# Altium schematic symbol library USBc to Ethernet(2.0).SchLib: 12 symbols
Pins are listed as number, name and electrical type; pins without a type are passive.

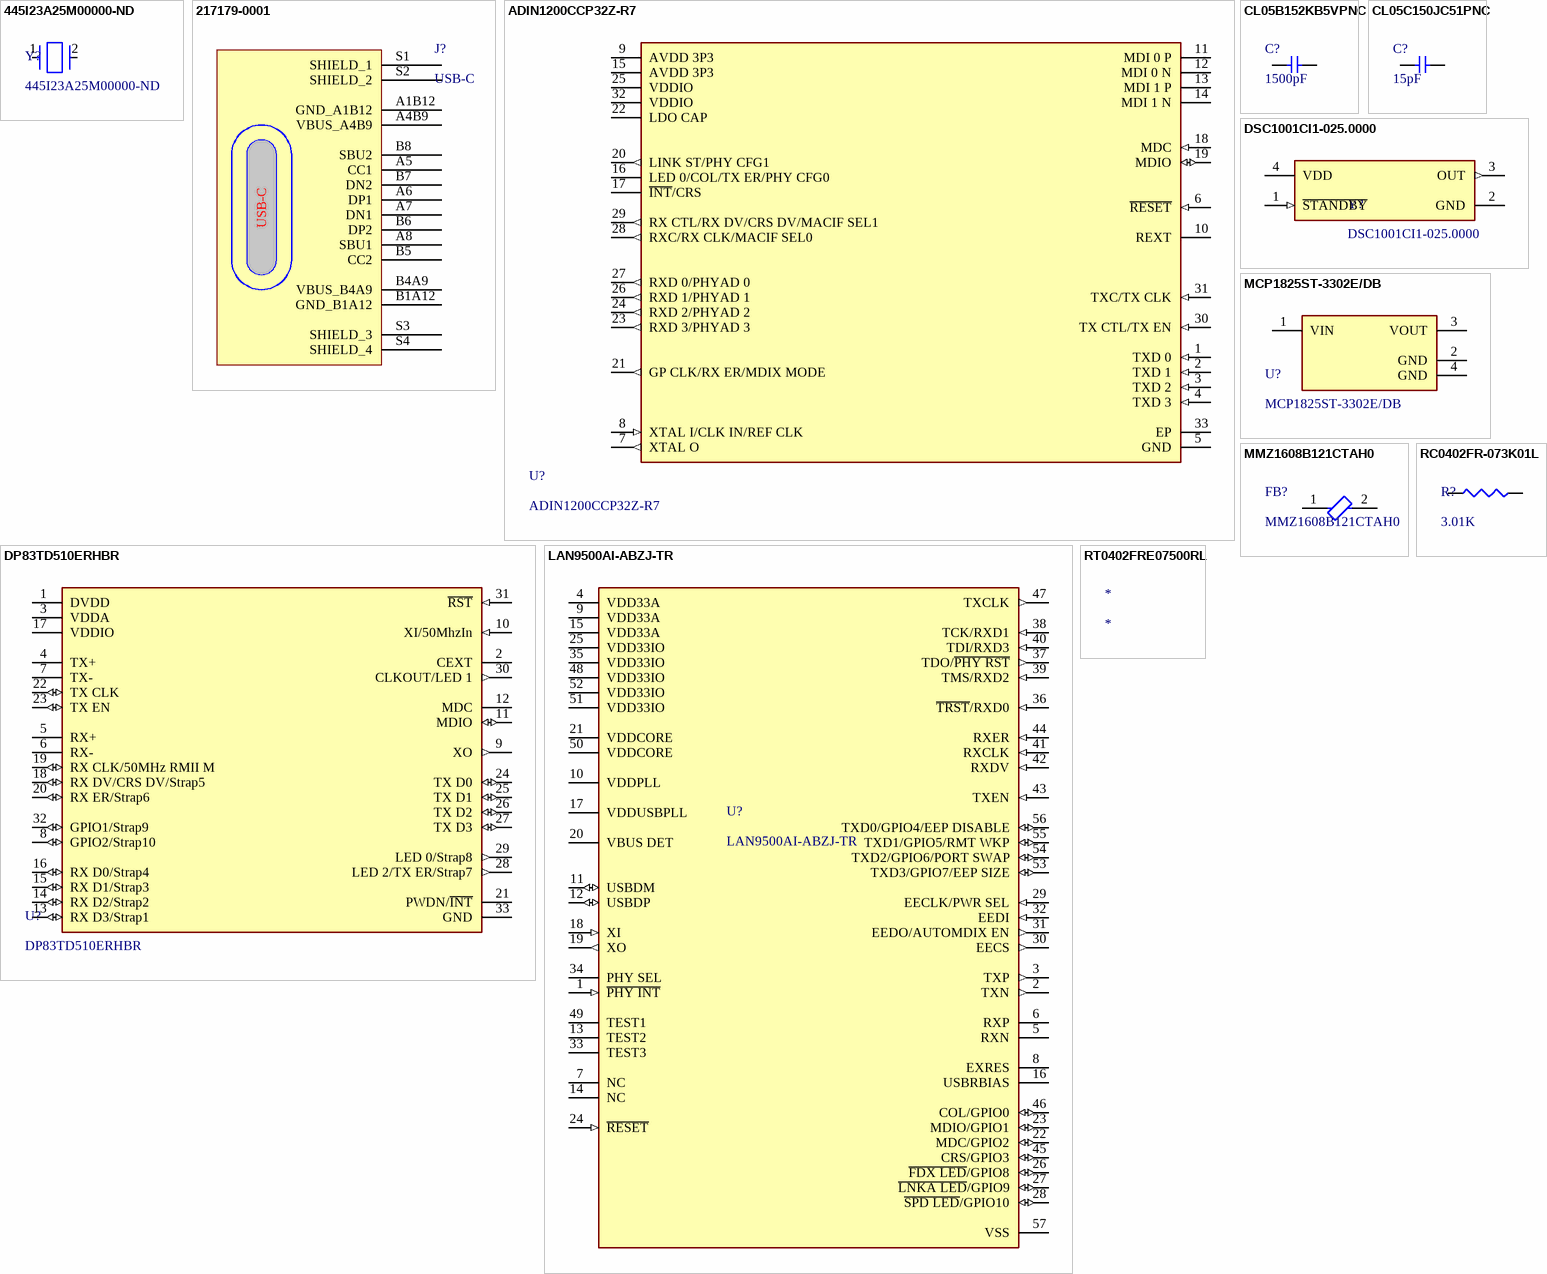
[diagram p0: symbols 445I23A25M00000-ND to RT0402FRE07500RL]

## 445I23A25M00000-ND
designator Y?
Crystal 25MHz ±20ppm (Tol) ±30ppm (Stability) 18pF FUND 30Ohm 2-Pin Mini-CSMD T/R; Manufacturer: Abracon; Manufacturer Part Number: ABM3-25.000MHZ-D2Y-T; ESR (Equivalent Series Resistance): 30Ω; Frequency Tolerance: 0.002%; Series Resistance: 50Ω; Supplier 1: DigiKey; RoHS: Compliant; Category: Crystals; Stock 1: 17148; Pricing 1: 1000=0.36759, 2000=0.35239, 3000=0.34379, 5000=0.33326, 7000=0.3265, 10000=0.31949 (USD); Case/Package: CSMD; China RoHS: Non-Compliant; Composition: Ceramic; Depth: 3.2mm; Frequency: 25MHz; Frequency Stability: 30ppm; Height: 1.3mm; Lead Free: Lead Free; Length: 5mm; Lifecycle Status: Production; Load Capacitance: 18pF; Max Operating Temperature: 85°C; Min Operating Temperature: -40°C; Mount: Surface Mount; Number of Pins: 2; Packaging: Cut Tape; REACH SVHC: Unaffected; Schedule B: 8541600060, 8541600060|8541600060|8541600060|8541600060|8541600060; Termination: SMD/SMT; Tolerance: 0.002%; Width: 3.2mm; ComponentLink1URL: https://datasheet.octopart.com:443/ABM3-25.000MHZ-D2Y-T-Abracon-datasheet-182205007.pdf?src-supplier=JRH+Electronics; ComponentLink1Description: https://datasheet.octopart.com:443/ABM3-25.000MHZ-D2Y-T-Abracon-datasheet-182205007.pdf?src-supplier=JRH+Electronics; ComponentLink2URL: https://datasheet.octopart.com:443/ABM3-25.000MHZ-D2Y-T-Abracon-datasheet-32780515.pdf?src-supplier=element14+APAC; ComponentLink2Description: https://datasheet.octopart.com:443/ABM3-25.000MHZ-D2Y-T-Abracon-datasheet-32780515.pdf?src-supplier=element14+APAC; ComponentLink3URL: https://sigma.octopart.com:443/138895675/technical_drawing/Abracon-ABM3-25.000MHZ-D2Y-T.pdf?src-supplier=Upverter; ComponentLink3Description: https://sigma.octopart.com:443/138895675/technical_drawing/Abracon-ABM3-25.000MHZ-D2Y-T.pdf?src-supplier=Upverter; ComponentLink4URL: https://datasheet.octopart.com:443/ABM3-25.000MHZ-D2Y-T-Abracon-datasheet-13417521.pdf?src-supplier=Sager+Electronics; ComponentLink4Description: https://datasheet.octopart.com:443/ABM3-25.000MHZ-D2Y-T-Abracon-datasheet-13417521.pdf?src-supplier=Sager+Electronics; ComponentLink5URL: https://datasheet.octopart.com:443/ABM3-25.000MHZ-D2Y-T-Abracon-datasheet-8862594.pdf?src-supplier=Sager+Electronics; ComponentLink5Description: https://datasheet.octopart.com:443/ABM3-25.000MHZ-D2Y-T-Abracon-datasheet-8862594.pdf?src-supplier=Sager+Electronics; ComponentLink6URL: https://datasheet.octopart.com:443/ABM3-25.000MHZ-D2Y-T-Abracon-datasheet-8853172.pdf?src-supplier=Sager+Electronics; ComponentLink6Description: https://datasheet.octopart.com:443/ABM3-25.000MHZ-D2Y-T-Abracon-datasheet-8853172.pdf?src-supplier=Sager+Electronics; ComponentLink7URL: https://datasheet.octopart.com:443/ABM3-25.000MHZ-D2Y-T-Abracon-datasheet-8835795.pdf?src-supplier=Sager+Electronics; ComponentLink7Description: https://datasheet.octopart.com:443/ABM3-25.000MHZ-D2Y-T-Abracon-datasheet-8835795.pdf?src-supplier=Sager+Electronics; ComponentLink8URL: https://datasheet.octopart.com:443/ABM3-25.000MHZ-D2Y-T-Abracon-datasheet-8815637.pdf?src-supplier=Sager+Electronics; ComponentLink8Description: https://datasheet.octopart.com:443/ABM3-25.000MHZ-D2Y-T-Abracon-datasheet-8815637.pdf?src-supplier=Sager+Electronics; ComponentLink9URL: https://datasheet.octopart.com:443/ABM3-25.000MHZ-D2Y-T-Abracon-datasheet-8808528.pdf?src-supplier=Sager+Electronics; ComponentLink9Description: https://datasheet.octopart.com:443/ABM3-25.000MHZ-D2Y-T-Abracon-datasheet-8808528.pdf?src-supplier=Sager+Electronics; ComponentLink10URL: https://datasheet.octopart.com:443/ABM3-25.000MHZ-D2Y-T-Abracon-datasheet-8488864.pdf?src-supplier=Sager+Electronics; ComponentLink10Description: https://datasheet.octopart.com:443/ABM3-25.000MHZ-D2Y-T-Abracon-datasheet-8488864.pdf?src-supplier=Sager+Electronics; ComponentLink11URL: https://datasheet.octopart.com:443/ABM3-25.000MHZ-D2Y-T-Abracon-datasheet-8324950.pdf?src-supplier=Sager+Electronics; ComponentLink11Description: https://datasheet.octopart.com:443/ABM3-25.000MHZ-D2Y-T-Abracon-datasheet-8324950.pdf?src-supplier=Sager+Electronics; ComponentLink12URL: https://datasheet.octopart.com:443/ABM3-25.000MHZ-D2Y-T-Abracon-datasheet-577709.pdf?src-supplier=Sager+Electronics; ComponentLink12Description: https://datasheet.octopart.com:443/ABM3-25.000MHZ-D2Y-T-Abracon-datasheet-577709.pdf?src-supplier=Sager+Electronics; ComponentLink13URL: https://datasheet.octopart.com:443/ABM3-25.000MHZ-D2Y-T-Abracon-datasheet-154724144.pdf?src-supplier=Sager+Electronics; ComponentLink13Description: https://datasheet.octopart.com:443/ABM3-25.000MHZ-D2Y-T-Abracon-datasheet-154724144.pdf?src-supplier=Sager+Electronics; ComponentLink14URL: https://datasheet.octopart.com:443/ABM3-25.000MHZ-D2Y-T-Abracon-datasheet-128558652.pdf?src-supplier=X-ON; ComponentLink14Description: https://datasheet.octopart.com:443/ABM3-25.000MHZ-D2Y-T-Abracon-datasheet-128558652.pdf?src-supplier=X-ON; ComponentLink15URL: https://datasheet.octopart.com:443/ABM3-25.000MHZ-D2Y-T-Abracon-datasheet-12514944.pdf?src-supplier=Farnell; ComponentLink15Description: https://datasheet.octopart.com:443/ABM3-25.000MHZ-D2Y-T-Abracon-datasheet-12514944.pdf?src-supplier=Farnell; ComponentLink16URL: http://sigma.octopart.com:80/conflict_mineral_statement/Abracon-company-27.pdf?src-supplier=Compliance+Statements; ComponentLink16Description: http://sigma.octopart.com:80/conflict_mineral_statement/Abracon-company-27.pdf?src-supplier=Compliance+Statements
pins: 1, 2

## 217179-0001
designator J?, comment USB-C
USB-C (USB TYPE-C) USB 2.0 Receptacle Connector 24 (16+8 Dummy) Position Surface Mount, Right Angle; Through Hole; Manufacturer: Molex; Manufacturer Part Number: 217179-0001; Manufacturer Lifecycle Status: ACTIVE; Contact Resistance: 50mΩ; Current Rating: 1.25A; Dielectric Material: Polyamide; Gender: Female; Insulation Resistance: 100MΩ; Number of Contacts: 16; Number of Ports: 1; USB Standard: USB 2.0; Voltage Rating: 30V; Supplier 1: DigiKey; RoHS: Compliant; Category: USB Connectors; Stock 1: 93695; Pricing 1: 1=0.9, 10=0.764, 25=0.7156, 50=0.6814, 100=0.6487, 250=0.60808, 500=0.57902 (USD); China RoHS: Compliant; Contact Material: Gold, Nickel; Country of Origin: Mainland China; Export Control Classification Number (ECCN) Code: EAR99; Height: 3.36mm; Harmonized Tariff Schedule (HTS) Code: 8536.69.40.30; Insulation Color: Black; Introduction Date: 2021-08-30; Lifecycle Status: Production; Max Operating Temperature: 85°C; Min Operating Temperature: -40°C; Number of Positions: 16; Number of Rows: 1; Orientation: Right Angle; REACH SVHC: Unaffected; Shell Finish: Nickel; Shell Material: Stainless Steel; Terminal Pitch: 500µm; ComponentLink1URL: https://datasheet.octopart.com:443/217179-0001-Molex-datasheet-158871109.pdf?src-supplier=ODG+(Origin+Data+Global); ComponentLink1Description: https://datasheet.octopart.com:443/217179-0001-Molex-datasheet-158871109.pdf?src-supplier=ODG+(Origin+Data+Global); ComponentLink2URL: https://sigma.octopart.com:443/158871110/technical_drawing/Molex-217179-0001.pdf?src-supplier=Upverter; ComponentLink2Description: https://sigma.octopart.com:443/158871110/technical_drawing/Molex-217179-0001.pdf?src-supplier=Upverter; ComponentLink3URL: https://datasheet.octopart.com:443/217179-0001-Molex-datasheet-164573281.pdf?src-supplier=RS+(Formerly+Allied+Electronics); ComponentLink3Description: https://datasheet.octopart.com:443/217179-0001-Molex-datasheet-164573281.pdf?src-supplier=RS+(Formerly+Allied+Electronics); ComponentLink4URL: http://sigma.octopart.com:80/reach_statement/Molex-company-74.pdf?src-supplier=Compliance+Statements; ComponentLink4Description: http://sigma.octopart.com:80/reach_statement/Molex-company-74.pdf?src-supplier=Compliance+Statements; ComponentLink5URL: http://sigma.octopart.com:80/rohs_statement/Molex-company-73.pdf?src-supplier=Compliance+Statements; ComponentLink5Description: http://sigma.octopart.com:80/rohs_statement/Molex-company-73.pdf?src-supplier=Compliance+Statements; ComponentLink6URL: http://sigma.octopart.com:80/conflict_mineral_statement/Molex-company-72.pdf?src-supplier=Compliance+Statements; ComponentLink6Description: http://sigma.octopart.com:80/conflict_mineral_statement/Molex-company-72.pdf?src-supplier=Compliance+Statements
footprint FP-2171790001-MFG
pins: A1B12 GND_A1B12, A4B9 VBUS_A4B9, A5 CC1, A6 DP1, A7 DN1, A8 SBU1, B1A12 GND_B1A12, B4A9 VBUS_B4A9, B5 CC2, B6 DP2, B7 DN2, B8 SBU2, S1 SHIELD_1, S2 SHIELD_2, S3 SHIELD_3, S4 SHIELD_4

## ADIN1200CCP32Z-R7
designator U?
1 1.71V，2.25V，3.14V 1.89V，2.75V，3.46V 10Mbps，100Mbps LFCSP-32 SMD mount，glue mount; Manufacturer: Analog Devices; Manufacturer Lifecycle Status: PRODUCTION; Supplier 1: DigiKey; Manufacturer Part Number: ADIN1200CCP32Z-R7; RoHS: Compliant; Category: Ethernet Controller; Stock 1: 1370; Pricing 1: 1=4.91, 10=3.732, 25=3.4384, 100=3.1157, 250=2.9682 (USD); Lifecycle Status: Production; Number of Pins: 32; Schedule B: 8542390000, 8542390000|8542390000|8542390000|8542390000|8542390000; ComponentLink1URL: https://octopart.com:443/opatz8j6/c1?t=HZL-HtANDajAHD0C8ZF6mlVMxWDT-0tIjJRmVTB2yYqGqlsq4ujGCt0vvVEDDg5XUYvZi3K2Ck7AUVEcfLzVVkLxOKsLAnPVoF7tYydxi1Ys7H6cvS-47R-_TxRLuqQcVIFhJLUG2H9zDe_djjrspLYMoVsZCYRF2gpSKYsGtSa6nOw0paGymVw3zpsHjwE5448VTEYwSnwllkFEedb2cqnXubyHQCMSJgI_EvgotiiYQ-o2w2ViWKimQ0UufNgkfBsnolBhi2VoNBWk9mf8fThbTduCaQ19_9E85Z12dS4mx2QsqoXMlhSOAg&src-supplier=Analog+Devices; ComponentLink1Description: https://octopart.com:443/opatz8j6/c1?t=HZL-HtANDajAHD0C8ZF6mlVMxWDT-0tIjJRmVTB2yYqGqlsq4ujGCt0vvVEDDg5XUYvZi3K2Ck7AUVEcfLzVVkLxOKsLAnPVoF7tYydxi1Ys7H6cvS-47R-_TxRLuqQcVIFhJLUG2H9zDe_djjrspLYMoVsZCYRF2gpSKYsGtSa6nOw0paGymVw3zpsHjwE5448VTEYwSnwllkFEedb2cqnXubyHQCMSJgI_EvgotiiYQ-o2w2ViWKimQ0UufNgkfBsnolBhi2VoNBWk9mf8fThbTduCaQ19_9E85Z12dS4mx2QsqoXMlhSOAg&src-supplier=Analog+Devices; ComponentLink2URL: https://datasheet.octopart.com:443/ADIN1200CCP32Z-R7-Analog-Devices-datasheet-141438756.pdf?src-supplier=element14+APAC; ComponentLink2Description: https://datasheet.octopart.com:443/ADIN1200CCP32Z-R7-Analog-Devices-datasheet-141438756.pdf?src-supplier=element14+APAC; ComponentLink3URL: http://sigma.octopart.com:80/conflict_mineral_statement/Analog-Devices-company-33.pdf?src-supplier=Compliance+Statements; ComponentLink3Description: http://sigma.octopart.com:80/conflict_mineral_statement/Analog-Devices-company-33.pdf?src-supplier=Compliance+Statements; ComponentLink4URL: https://octopart.com:443/opatz8j6/c1?t=PoRLQp7jAx8DIxURaa5E2FvOBT3bXxa1rSs2w7Og9uR9LC3mrpHz0_ugoRWFuXDpcslK1_tLtw4JcPG-_Mxx0jV5tFBggtCb5R_LRp85Poy0VVgqcv1NZ2J8wJxSnnmHFcaGONEvr_7F5qlalwvU_G7Y00SaWFcgec8N1W5v7AUHr0rYnCzVgvfBwvLbkMOP-qDSKP79IBKvZHS6jE1AIHV6GwCG7vf8DifVqGkXxabmubl95EmSBT8bOIRN3PY9oueR6UnOEoJqNSQfEmFs3Et9oQkvBRt6NeTbrb4b5_XWDukSQHjSOm5y4g&src-supplier=Compliance+Statements; ComponentLink4Description: https://octopart.com:443/opatz8j6/c1?t=PoRLQp7jAx8DIxURaa5E2FvOBT3bXxa1rSs2w7Og9uR9LC3mrpHz0_ugoRWFuXDpcslK1_tLtw4JcPG-_Mxx0jV5tFBggtCb5R_LRp85Poy0VVgqcv1NZ2J8wJxSnnmHFcaGONEvr_7F5qlalwvU_G7Y00SaWFcgec8N1W5v7AUHr0rYnCzVgvfBwvLbkMOP-qDSKP79IBKvZHS6jE1AIHV6GwCG7vf8DifVqGkXxabmubl95EmSBT8bOIRN3PY9oueR6UnOEoJqNSQfEmFs3Et9oQkvBRt6NeTbrb4b5_XWDukSQHjSOm5y4g&src-supplier=Compliance+Statements
pins: 1 TXD 0 (in), 2 TXD 1 (in), 3 TXD 2 (in), 4 TXD 3 (in), 5 GND (power), 6 ~{RESET} (in), 7 XTAL O (out), 8 XTAL I/CLK IN/REF CLK (in), 9 AVDD 3P3 (power), 10 REXT, 11 MDI 0 P, 12 MDI 0 N, 13 MDI 1 P, 14 MDI 1 N, 15 AVDD 3P3 (power), 16 LED 0/COL/TX ER/PHY CFG0, 17 ~{INT}/CRS (oc), 18 MDC (in), 19 MDIO (io), 20 LINK ST/PHY CFG1 (out), 21 GP CLK/RX ER/MDIX MODE (out), 22 LDO CAP (power), 23 RXD 3/PHYAD 3 (out), 24 RXD 2/PHYAD 2 (out), 25 VDDIO (power), 26 RXD 1/PHYAD 1 (out), 27 RXD 0/PHYAD 0 (out), 28 RXC/RX CLK/MACIF SEL0 (out), 29 RX CTL/RX DV/CRS DV/MACIF SEL1 (out), 30 TX CTL/TX EN (in), 31 TXC/TX CLK (in), 32 VDDIO (power), 33 EP (power)

## CL05B152KB5VPNC
designator C?, comment 1500pF
1500 pF ±10% 50V Ceramic Capacitor X7R 0402 (1005 Metric); Manufacturer: Samsung Electro-Mechanics; Manufacturer Part Number: CL05B152KB5VPNC; Capacitance: 1.5nF; Supplier 1: DigiKey; RoHS: Compliant; Category: Ceramic Capacitors; Stock 1: 275794; Pricing 1: 1=0.1, 10=0.036, 50=0.0242, 100=0.0206, 500=0.01472 (USD); Case/Package: 0402; Case Code (Imperial): 0402; Case Code (Metric): 1005; China RoHS: Compliant; Dielectric Material: Ceramic; Features: Soft Termination; Height: 550µm; Lead Free: Lead Free; Length: 990.6µm; Lifecycle Status: Production; Material: Ceramic; Max Operating Temperature: 125°C; Min Operating Temperature: -55°C; Mount: Surface Mount; Number of Terminals: 2; Packaging: Tape & Reel (TR); Ratings: AEC-Q200; REACH SVHC: Unaffected; Thickness: 558.8µm; Tolerance: 10%; Voltage Rating: 50V; Voltage Rating (DC): 50V; Width: 508µm; ComponentLink1URL: https://datasheet.octopart.com:443/CL05B152KB5VPNC-Samsung-Electro-Mechanics-datasheet-176142735.pdf?src-supplier=IHS; ComponentLink1Description: https://datasheet.octopart.com:443/CL05B152KB5VPNC-Samsung-Electro-Mechanics-datasheet-176142735.pdf?src-supplier=IHS; ComponentLink2URL: https://datasheet.octopart.com:443/CL05B152KB5VPNC-Samsung-Electro-Mechanics-datasheet-141346877.pdf?src-supplier=Samsung+SCT; ComponentLink2Description: https://datasheet.octopart.com:443/CL05B152KB5VPNC-Samsung-Electro-Mechanics-datasheet-141346877.pdf?src-supplier=Samsung+SCT; ComponentLink3URL: https://datasheet.octopart.com:443/CL05B152KB5VPNC-Samsung-datasheet-66660282.pdf?src-supplier=Future+Electronics; ComponentLink3Description: https://datasheet.octopart.com:443/CL05B152KB5VPNC-Samsung-datasheet-66660282.pdf?src-supplier=Future+Electronics; ComponentLink4URL: https://datasheet.octopart.com:443/CL05B152KB5VPNC-Samsung-datasheet-62043905.pdf?src-supplier=Future+Electronics; ComponentLink4Description: https://datasheet.octopart.com:443/CL05B152KB5VPNC-Samsung-datasheet-62043905.pdf?src-supplier=Future+Electronics; ComponentLink5URL: https://datasheet.octopart.com:443/CL05B152KB5VPNC-Samsung-Electro-Mechanics-datasheet-68304628.pdf?src-supplier=Future+Electronics; ComponentLink5Description: https://datasheet.octopart.com:443/CL05B152KB5VPNC-Samsung-Electro-Mechanics-datasheet-68304628.pdf?src-supplier=Future+Electronics; ComponentLink6URL: https://datasheet.octopart.com:443/CL05B152KB5VPNC-Samsung-Electro-Mechanics-datasheet-149136721.pdf?src-supplier=Future+Electronics; ComponentLink6Description: https://datasheet.octopart.com:443/CL05B152KB5VPNC-Samsung-Electro-Mechanics-datasheet-149136721.pdf?src-supplier=Future+Electronics; ComponentLink7URL: https://datasheet.octopart.com:443/CL05B152KB5VPNC-Samsung-datasheet-8326407.pdf?src-supplier=TME; ComponentLink7Description: https://datasheet.octopart.com:443/CL05B152KB5VPNC-Samsung-datasheet-8326407.pdf?src-supplier=TME
pins: 1, 2

## CL05C150JC51PNC
designator C?, comment 15pF
Multilayer Ceramic Capacitors MLCC - SMD/SMT 0402 C0G 15pF 5% 100V automotive grade; Manufacturer: Samsung Electro-Mechanics; Manufacturer Part Number: CL05C150JC51PNC; Temperature Coefficient: 30ppm/°C; Supplier 1: DigiKey; RoHS: Compliant; Category: Ceramic Capacitors; Stock 1: 123361; Pricing 1: 1=0.1, 10=0.055, 50=0.0378, 100=0.0326, 500=0.02386 (USD); Capacitance: 15pF; Case/Package: 0402; China RoHS: Compliant; Dielectric Material: Ceramic; Height: 500µm; Length: 1mm; Lifecycle Status: Production; Material: Ceramic; Max Operating Temperature: 125°C; Min Operating Temperature: -55°C; Mount: Surface Mount; Number of Terminals: 2; REACH SVHC: Unaffected; Tolerance: 5%; Voltage Rating: 100V; Voltage Rating (DC): 100V; Width: 500µm; ComponentLink1URL: https://datasheet.octopart.com:443/CL05C150JC51PNC-Samsung-Electro-Mechanics-datasheet-176142735.pdf?src-supplier=IHS; ComponentLink1Description: https://datasheet.octopart.com:443/CL05C150JC51PNC-Samsung-Electro-Mechanics-datasheet-176142735.pdf?src-supplier=IHS
pins: 1, 2

## DP83TD510ERHBR
designator U?
IEEE 802.3cg 10BASE-T1L Ethernet PHY 32-VQFN -40 to 105; Manufacturer: Texas Instruments; Manufacturer Lifecycle Status: ACTIVE; Data Rate: 10Mbps; Interface: RGMII; Max Supply Voltage: 3.6V; Min Supply Voltage: 900mV; Number of Channels: 2; Supplier 1: DigiKey; Manufacturer Part Number: DP83TD510ERHBR; RoHS: Compliant; Category: Ethernet Interface ICs; Stock 1: 1556; Pricing 1: 1=9.53, 10=7.415, 25=6.8868, 100=6.3061, 250=6.19344 (USD); Ambient Temperature Range High: 105°C; Case/Package: VQFN; Height: 1mm; Length: 5mm; Lifecycle Status: Production; Max Operating Temperature: 105°C; Min Operating Temperature: -40°C; Number of Pins: 32; Thickness: 900µm; Width: 5mm; ComponentLink1URL: https://octopart.com:443/opatz8j6/c1?t=HXCeHJIJrJUY_r5PvG1tar_WxQet4K8sAtylKhfdarFxEMyQGEtPuBt1aT4BuPOGsOCB5aunG9lcY4egXm5AYrn0ipbUkBmJlwFCQsI0e8sGK6rp6MVQACuOuW4I4iHTWS3tYs4wMAiM6XVUBmNMs3WkaShXhfWgDGcoeZveXZYDGClul6hwwk_y3-vJCjMtEXVxhSykAEYaIDOoRxdXnVkCdVskGITTY3jSikjOUhHZ0ngtSD5t-ZAqWEq5JEjuDjp-HzGiwzhVSPh8BS-esqmCmUDxNSzykIgYOHLI0jpYvSQx753m5uyVTI9cQ-5irseWMazU7IRCGiSqP662jg4zl-jK2TqOiM-nzTXeRHBZxac6KtEfRD9r1hq8Tl5b9dHqcMczyfuP&src-supplier=Texas+Instruments; ComponentLink1Description: https://octopart.com:443/opatz8j6/c1?t=HXCeHJIJrJUY_r5PvG1tar_WxQet4K8sAtylKhfdarFxEMyQGEtPuBt1aT4BuPOGsOCB5aunG9lcY4egXm5AYrn0ipbUkBmJlwFCQsI0e8sGK6rp6MVQACuOuW4I4iHTWS3tYs4wMAiM6XVUBmNMs3WkaShXhfWgDGcoeZveXZYDGClul6hwwk_y3-vJCjMtEXVxhSykAEYaIDOoRxdXnVkCdVskGITTY3jSikjOUhHZ0ngtSD5t-ZAqWEq5JEjuDjp-HzGiwzhVSPh8BS-esqmCmUDxNSzykIgYOHLI0jpYvSQx753m5uyVTI9cQ-5irseWMazU7IRCGiSqP662jg4zl-jK2TqOiM-nzTXeRHBZxac6KtEfRD9r1hq8Tl5b9dHqcMczyfuP&src-supplier=Texas+Instruments; ComponentLink2URL: https://datasheet.octopart.com:443/DP83TD510ERHBR-Texas-Instruments-datasheet-153197406.pdf?src-supplier=Upverter; ComponentLink2Description: https://datasheet.octopart.com:443/DP83TD510ERHBR-Texas-Instruments-datasheet-153197406.pdf?src-supplier=Upverter; ComponentLink3URL: https://datasheet.octopart.com:443/DP83TD510ERHBR-Texas-Instruments-datasheet-165811217.pdf?src-supplier=Augswan; ComponentLink3Description: https://datasheet.octopart.com:443/DP83TD510ERHBR-Texas-Instruments-datasheet-165811217.pdf?src-supplier=Augswan; ComponentLink4URL: https://datasheet.octopart.com:443/DP83TD510ERHBR-Texas-Instruments-datasheet-163761374.pdf?src-supplier=LCSC; ComponentLink4Description: https://datasheet.octopart.com:443/DP83TD510ERHBR-Texas-Instruments-datasheet-163761374.pdf?src-supplier=LCSC; ComponentLink5URL: http://sigma.octopart.com:80/reach_statement/Texas-Instruments-company-64.pdf?src-supplier=Compliance+Statements; ComponentLink5Description: http://sigma.octopart.com:80/reach_statement/Texas-Instruments-company-64.pdf?src-supplier=Compliance+Statements; ComponentLink6URL: http://sigma.octopart.com:80/conflict_mineral_statement/Texas-Instruments-company-63.pdf?src-supplier=Compliance+Statements; ComponentLink6Description: http://sigma.octopart.com:80/conflict_mineral_statement/Texas-Instruments-company-63.pdf?src-supplier=Compliance+Statements
pins: 1 DVDD (power), 2 CEXT, 3 VDDA (power), 4 TX+, 5 RX+, 6 RX-, 7 TX-, 8 GPIO2/Strap10 (io), 9 XO (out), 10 XI/50MhzIn (in), 11 MDIO (io), 12 MDC, 13 RX D3/Strap1 (io), 14 RX D2/Strap2 (io), 15 RX D1/Strap3 (io), 16 RX D0/Strap4 (io), 17 VDDIO (power), 18 RX DV/CRS DV/Strap5 (io), 19 RX CLK/50MHz RMII M (io), 20 RX ER/Strap6 (io), 21 PWDN/~{INT} (power), 22 TX CLK (io), 23 TX EN (io), 24 TX D0 (io), 25 TX D1 (io), 26 TX D2 (io), 27 TX D3 (io), 28 LED 2/TX ER/Strap7 (out), 29 LED 0/Strap8 (out), 30 CLKOUT/LED 1 (out), 31 ~{RST} (in), 32 GPIO1/Strap9 (io), 33 GND (power)

## DSC1001CI1-025.0000
designator Y?
MEMS Oscillator, 25 MHz, SMD, 3.2mm x 2.5mm, 50 ppm, 3.3 V, DSC1001; Manufacturer: Microchip; Manufacturer Lifecycle Status: REL; Frequency: 25MHz; Frequency Stability: 50ppm; Load Capacitance: 15pF; Max Duty Cycle: 55%; Max Junction Temperature (Tj): 150°C; Max Supply Current: 8.3mA; Max Supply Voltage: 3.6V; Min Supply Voltage: 1.7V; Supplier 1: DigiKey; Manufacturer Part Number: DSC1001CI1-025.0000; RoHS: Compliant; Category: Oscillators; Stock 1: 45; Pricing 1: 1=1.03, 10=1.008, 50=0.9918, 1000=0.96305 (USD); Projected EOL Date: 2039-01-20; Ambient Temperature Range High: 85°C; Case/Package: QFN; Country of Assembly: Thailand; Country of Fabrication: Singapore, United States of America; Country of Origin: Thailand; Export Control Classification Number (ECCN) Code: EAR99; Height: 900µm; HS Code: 8542.39.0090; Harmonized Tariff Schedule (HTS) Code: 8542.39.0060; Length: 3.2004mm; Lifecycle Status: Production; Max Operating Temperature: 85°C; Min Operating Temperature: -40°C; Mount: Standard, Surface Mount; Number of Pins: 4; Ratings: AEC-Q100; Schedule B: 8542390000, 8542390000|8542390000|8542390000|8542390000|8542390000|8542390000|8542390000|8542390000|8542390000|8542390000|8542390000|8542390000|8542390000|8542390000|8542390000|8542390000|8542390000|8542390000|8542390000|8542390000|8542390000|8542390000|8542390000|85; Termination: SMD/SMT; Width: 2.4892mm; ComponentLink1URL: https://datasheet.octopart.com:443/DSC1001CI1-025.0000-Microchip-datasheet-175858442.pdf?src-supplier=Microchip; ComponentLink1Description: https://datasheet.octopart.com:443/DSC1001CI1-025.0000-Microchip-datasheet-175858442.pdf?src-supplier=Microchip; ComponentLink2URL: https://datasheet.octopart.com:443/DSC1001CI1-025.0000-Microchip-datasheet-101746131.pdf?src-supplier=Upverter; ComponentLink2Description: https://datasheet.octopart.com:443/DSC1001CI1-025.0000-Microchip-datasheet-101746131.pdf?src-supplier=Upverter; ComponentLink3URL: http://sigma.octopart.com:80/188452010/materials_sheet/Microchip-DSC1001CI1-025.0000.pdf?src-supplier=Compliance+Statements; ComponentLink3Description: http://sigma.octopart.com:80/188452010/materials_sheet/Microchip-DSC1001CI1-025.0000.pdf?src-supplier=Compliance+Statements; ComponentLink4URL: http://sigma.octopart.com:80/rohs_statement/Microchip-company-71.pdf?src-supplier=Compliance+Statements; ComponentLink4Description: http://sigma.octopart.com:80/rohs_statement/Microchip-company-71.pdf?src-supplier=Compliance+Statements; ComponentLink5URL: http://sigma.octopart.com:80/reach_statement/Microchip-company-70.pdf?src-supplier=Compliance+Statements; ComponentLink5Description: http://sigma.octopart.com:80/reach_statement/Microchip-company-70.pdf?src-supplier=Compliance+Statements; ComponentLink6URL: http://sigma.octopart.com:80/conflict_mineral_statement/Microchip-company-69.pdf?src-supplier=Compliance+Statements; ComponentLink6Description: http://sigma.octopart.com:80/conflict_mineral_statement/Microchip-company-69.pdf?src-supplier=Compliance+Statements; ComponentLink7URL: http://sigma.octopart.com:80/conflict_mineral_statement/Microchip-company-68.pdf?src-supplier=Compliance+Statements; ComponentLink7Description: http://sigma.octopart.com:80/conflict_mineral_statement/Microchip-company-68.pdf?src-supplier=Compliance+Statements
pins: 1 ~{STANDBY} (in), 2 GND (power), 3 OUT (out), 4 VDD (power)

## LAN9500AI-ABZJ-TR
designator U?
Ethernet Bridge, USB to Ethernet USB 2.0, 10/100 Base-T/TX PHY USB Interface 56-QFN (8x8); Manufacturer: Microchip; Manufacturer Lifecycle Status: REL; Data Rate: 100Mbps; Interface: Ethernet, USB; Max Supply Voltage: 3.6V; Min Supply Voltage: 3V; Number of Channels: 1; Operating Supply Voltage: 3.3V; Supplier 1: DigiKey; Manufacturer Part Number: LAN9500AI-ABZJ-TR; RoHS: Compliant; Category: Ethernet Controller; Stock 1: 17687; Pricing 1: 1=6.57, 25=6.472 (USD); Projected EOL Date: 2039-03-03; Ambient Temperature Range High: 85°C; Contact Plating: Tin; Country of Assembly: Singapore, Taiwan; Country of Fabrication: Singapore; Country of Origin: Singapore, Taiwan; Export Control Classification Number (ECCN) Code: EAR99; Height: 1mm; HS Code: 8542.31.0030; Harmonized Tariff Schedule (HTS) Code: 8542.31.0030; Lead Free: Lead Free; Lifecycle Status: Production; Max Operating Temperature: 85°C; Min Operating Temperature: -40°C; Mount: Surface Mount; Number of Pins: 56; Radiation Hardening: No; Schedule B: 8542390000, 8542390000|8542390000|8542390000|8542390000|8542390000|8542390000|8542390000|8542390000|8542390000|8542390000|8542390000|8542390000|8542390000|8542390000|8542390000|8542390000|8542390000|8542390000|8542390000|8542390000|8542390000|8542390000|8542390000|85; ComponentLink1URL: https://datasheet.octopart.com:443/LAN9500AI-ABZJ-TR-Microchip-datasheet-101746277.pdf?src-supplier=Augswan; ComponentLink1Description: https://datasheet.octopart.com:443/LAN9500AI-ABZJ-TR-Microchip-datasheet-101746277.pdf?src-supplier=Augswan; ComponentLink2URL: https://datasheet.octopart.com:443/LAN9500AI-ABZJ-TR-Microchip-datasheet-179437561.pdf?src-supplier=Microchip; ComponentLink2Description: https://datasheet.octopart.com:443/LAN9500AI-ABZJ-TR-Microchip-datasheet-179437561.pdf?src-supplier=Microchip; ComponentLink3URL: https://datasheet.octopart.com:443/LAN9500AI-ABZJ-TR-Microchip-datasheet-140259316.pdf?src-supplier=Microchip; ComponentLink3Description: https://datasheet.octopart.com:443/LAN9500AI-ABZJ-TR-Microchip-datasheet-140259316.pdf?src-supplier=Microchip; ComponentLink4URL: https://datasheet.octopart.com:443/LAN9500AI-ABZJ-TR-Microchip-datasheet-166046754.pdf?src-supplier=Microchip; ComponentLink4Description: https://datasheet.octopart.com:443/LAN9500AI-ABZJ-TR-Microchip-datasheet-166046754.pdf?src-supplier=Microchip; ComponentLink5URL: https://datasheet.octopart.com:443/LAN9500AI-ABZJ-TR-Microchip-datasheet-154741932.pdf?src-supplier=Electro+Sonic; ComponentLink5Description: https://datasheet.octopart.com:443/LAN9500AI-ABZJ-TR-Microchip-datasheet-154741932.pdf?src-supplier=Electro+Sonic; ComponentLink6URL: https://datasheet.octopart.com:443/LAN9500AI-ABZJ-TR-Microchip-datasheet-57590167.pdf?src-supplier=Future+Electronics; ComponentLink6Description: https://datasheet.octopart.com:443/LAN9500AI-ABZJ-TR-Microchip-datasheet-57590167.pdf?src-supplier=Future+Electronics; ComponentLink7URL: http://sigma.octopart.com:80/188454377/materials_sheet/Microchip-LAN9500AI-ABZJ-TR.pdf?src-supplier=Compliance+Statements; ComponentLink7Description: http://sigma.octopart.com:80/188454377/materials_sheet/Microchip-LAN9500AI-ABZJ-TR.pdf?src-supplier=Compliance+Statements; ComponentLink8URL: http://sigma.octopart.com:80/rohs_statement/Microchip-company-71.pdf?src-supplier=Compliance+Statements; ComponentLink8Description: http://sigma.octopart.com:80/rohs_statement/Microchip-company-71.pdf?src-supplier=Compliance+Statements; ComponentLink9URL: http://sigma.octopart.com:80/reach_statement/Microchip-company-70.pdf?src-supplier=Compliance+Statements; ComponentLink9Description: http://sigma.octopart.com:80/reach_statement/Microchip-company-70.pdf?src-supplier=Compliance+Statements; ComponentLink10URL: http://sigma.octopart.com:80/conflict_mineral_statement/Microchip-company-69.pdf?src-supplier=Compliance+Statements; ComponentLink10Description: http://sigma.octopart.com:80/conflict_mineral_statement/Microchip-company-69.pdf?src-supplier=Compliance+Statements; ComponentLink11URL: http://sigma.octopart.com:80/conflict_mineral_statement/Microchip-company-68.pdf?src-supplier=Compliance+Statements; ComponentLink11Description: http://sigma.octopart.com:80/conflict_mineral_statement/Microchip-company-68.pdf?src-supplier=Compliance+Statements
footprint FP-56QFN-5904-8x8B-MFG
pins: 1 ~{PHY INT} (in), 2 TXN (out), 3 TXP (out), 4 VDD33A (power), 5 RXN, 6 RXP, 7 NC, 8 EXRES, 9 VDD33A (power), 10 VDDPLL (power), 11 USBDM (io), 12 USBDP (io), 13 TEST2, 14 NC, 15 VDD33A (power), 16 USBRBIAS, 17 VDDUSBPLL (power), 18 XI (in), 19 XO (out), 20 VBUS DET (power), 21 VDDCORE (power), 22 MDC/GPIO2 (io), 23 MDIO/GPIO1 (io), 24 ~{RESET} (in), 25 VDD33IO (power), 26 ~{FDX LED}/GPIO8 (io), 27 ~{LNKA LED}/GPIO9 (io), 28 ~{SPD LED}/GPIO10 (io), 29 EECLK/PWR SEL (in), 30 EECS (out), 31 EEDO/AUTOMDIX EN (out), 32 EEDI (in), 33 TEST3, 34 PHY SEL, 35 VDD33IO (power), 36 ~{TRST}/RXD0 (in), 37 TDO/~{PHY RST} (out), 38 TCK/RXD1 (in), 39 TMS/RXD2 (in), 40 TDI/RXD3 (in), 41 RXCLK (in), 42 RXDV (in), 43 TXEN (in), 44 RXER (in), 45 CRS/GPIO3 (io), 46 COL/GPIO0 (io), 47 TXCLK (out), 48 VDD33IO (power), 49 TEST1, 50 VDDCORE (power), 51 VDD33IO (power), 52 VDD33IO (power), 53 TXD3/GPIO7/EEP SIZE (io), 54 TXD2/GPIO6/PORT SWAP (io), 55 TXD1/GPIO5/RMT WKP (io), 56 TXD0/GPIO4/EEP DISABLE (io), 57 VSS (power)

## MCP1825ST-3302E/DB
designator U?
MCP1825 Series 3.3 V 500 mA Fixed Surface Mount Voltage Regulator - SOT-223; Manufacturer: Microchip; Manufacturer Lifecycle Status: REL; Dropout Voltage: 210mV; Input Bias Current: 120µA; Max Input Voltage: 6V; Max Junction Temperature (Tj): 125°C; Min Input Voltage: 2.1V; Number of Channels: 1; Output Current: 500mA; Output Voltage: 3.3V; Output Voltage Accuracy: 0.5%; Polarity: Positive; Quiescent Current: 220µA; Supplier 1: DigiKey; Manufacturer Part Number: MCP1825ST-3302E/DB; RoHS: Compliant; Category: LDO Voltage Regulators; Stock 1: 29277; Pricing 1: 1=0.69, 25=0.58, 100=0.5661 (USD); Projected EOL Date: 2034-09-05; Case/Package: SOT-223-3; Country of Assembly: Taiwan, Thailand; Country of Fabrication: United States of America; Country of Origin: Taiwan, Thailand; Export Control Classification Number (ECCN) Code: EAR99; Height: 1.8mm; HS Code: 8542.39.0090; Harmonized Tariff Schedule (HTS) Code: 8542.39.0060; Introduction Date: 2007-09-05; Lifecycle Status: Production; Max Operating Temperature: 125°C; Max Supply Voltage: 6V; Min Operating Temperature: -40°C; Min Supply Voltage: 2.1V; Mount: Surface Mount; Nominal Supply Current: 120µA; Number of Outputs: 1; Number of Pins: 3; Number of Regulators: 1; Output Type: Fixed; Radiation Hardening: No; Schedule B: 8542390000, 8542390000|8542390000|8542390000|8542390000|8542390000; ComponentLink1URL: https://datasheet.octopart.com:443/MCP1825ST-3302E/DB-Microchip-datasheet-8326668.pdf?src-supplier=LKR; ComponentLink1Description: https://datasheet.octopart.com:443/MCP1825ST-3302E/DB-Microchip-datasheet-8326668.pdf?src-supplier=LKR; ComponentLink2URL: https://sigma.octopart.com:443/141256326/technical_drawing/Microchip-MCP1825ST-3302E-DB.pdf?src-supplier=Upverter; ComponentLink2Description: https://sigma.octopart.com:443/141256326/technical_drawing/Microchip-MCP1825ST-3302E-DB.pdf?src-supplier=Upverter; ComponentLink3URL: https://datasheet.octopart.com:443/MCP1825ST-3302E-DB-Microchip-datasheet-165038064.pdf?src-supplier=Microchip; ComponentLink3Description: https://datasheet.octopart.com:443/MCP1825ST-3302E-DB-Microchip-datasheet-165038064.pdf?src-supplier=Microchip; ComponentLink4URL: https://datasheet.octopart.com:443/MCP1825ST-3302E/DB-Microchip-datasheet-14169218.pdf?src-supplier=iiiC; ComponentLink4Description: https://datasheet.octopart.com:443/MCP1825ST-3302E/DB-Microchip-datasheet-14169218.pdf?src-supplier=iiiC; ComponentLink5URL: https://datasheet.octopart.com:443/MCP1825ST-3302E-DB-Microchip-datasheet-140568171.pdf?src-supplier=Arrow.cn; ComponentLink5Description: https://datasheet.octopart.com:443/MCP1825ST-3302E-DB-Microchip-datasheet-140568171.pdf?src-supplier=Arrow.cn; ComponentLink6URL: http://sigma.octopart.com:80/188455082/materials_sheet/Microchip-MCP1825ST-3302E-DB.pdf?src-supplier=Compliance+Statements; ComponentLink6Description: http://sigma.octopart.com:80/188455082/materials_sheet/Microchip-MCP1825ST-3302E-DB.pdf?src-supplier=Compliance+Statements; ComponentLink7URL: http://sigma.octopart.com:80/rohs_statement/Microchip-company-71.pdf?src-supplier=Compliance+Statements; ComponentLink7Description: http://sigma.octopart.com:80/rohs_statement/Microchip-company-71.pdf?src-supplier=Compliance+Statements; ComponentLink8URL: http://sigma.octopart.com:80/reach_statement/Microchip-company-70.pdf?src-supplier=Compliance+Statements; ComponentLink8Description: http://sigma.octopart.com:80/reach_statement/Microchip-company-70.pdf?src-supplier=Compliance+Statements; ComponentLink9URL: http://sigma.octopart.com:80/conflict_mineral_statement/Microchip-company-69.pdf?src-supplier=Compliance+Statements; ComponentLink9Description: http://sigma.octopart.com:80/conflict_mineral_statement/Microchip-company-69.pdf?src-supplier=Compliance+Statements; ComponentLink10URL: http://sigma.octopart.com:80/conflict_mineral_statement/Microchip-company-68.pdf?src-supplier=Compliance+Statements; ComponentLink10Description: http://sigma.octopart.com:80/conflict_mineral_statement/Microchip-company-68.pdf?src-supplier=Compliance+Statements
pins: 1 VIN (power), 2 GND (power), 3 VOUT (power), 4 GND (power)

## MMZ1608B121CTAH0
designator FB?
FERRITE BEAD 120 OHM 0603 1LN; Manufacturer: TDK; Manufacturer Lifecycle Status: PRODUCTION; Current Rating: 600mA; DC Resistance (DCR): 150mΩ; Impedance: 120Ω; Number of Circuits: 1; Test Frequency: 100MHz; Tolerance: 25%; Supplier 1: DigiKey; Manufacturer Part Number: MMZ1608B121CTAH0; RoHS: Compliant; Category: Ferrite Beads and Chips; Stock 1: 284237; Pricing 1: 1=0.1, 10=0.053, 25=0.046, 50=0.0414, 100=0.0372, 250=0.03208, 500=0.02858, 1000=0.02535 (USD); Case/Package: 0603; Case Code (Imperial): 0603; Case Code (Metric): 1608; Core Material: Ferrite; Depth: 800µm; Export Control Classification Number (ECCN) Code: EAR99; Height: 600µm; Harmonized Tariff Schedule (HTS) Code: 8504.50.80.00; Introduction Date: 2009-03-27; Length: 1.6mm; Lifecycle Status: Production; Max DC Current: 600mA; Max Length: 1.75mm; Max Operating Temperature: 125°C; Max Width: 950µm; Min Length: 1.45mm; Min Operating Temperature: -55°C; Min Width: 650µm; Mount: Surface Mount; Number of Terminals: 2; REACH SVHC: Unaffected; Resistance: 150mΩ; RMS Current (Irms): 600mA; Schedule B: 8504500000, 8504500000|8504500000|8504500000|8504500000|8504500000; Series Resistance: 150mΩ; Width: 800µm; ComponentLink1URL: https://datasheet.octopart.com:443/MMZ1608B121CTAH0-TDK-datasheet-151651381.pdf?src-supplier=ODG+(Origin+Data+Global); ComponentLink1Description: https://datasheet.octopart.com:443/MMZ1608B121CTAH0-TDK-datasheet-151651381.pdf?src-supplier=ODG+(Origin+Data+Global); ComponentLink2URL: https://datasheet.octopart.com:443/MMZ1608B121CTAH0-TDK-datasheet-41213274.pdf?src-supplier=Upverter; ComponentLink2Description: https://datasheet.octopart.com:443/MMZ1608B121CTAH0-TDK-datasheet-41213274.pdf?src-supplier=Upverter; ComponentLink3URL: https://datasheet.octopart.com:443/MMZ1608B121CTAH0-TDK-datasheet-82475256.pdf?src-supplier=Newark; ComponentLink3Description: https://datasheet.octopart.com:443/MMZ1608B121CTAH0-TDK-datasheet-82475256.pdf?src-supplier=Newark; ComponentLink4URL: https://datasheet.octopart.com:443/MMZ1608B121CTAH0-TDK-datasheet-101614771.pdf?src-supplier=Newark; ComponentLink4Description: https://datasheet.octopart.com:443/MMZ1608B121CTAH0-TDK-datasheet-101614771.pdf?src-supplier=Newark; ComponentLink5URL: https://datasheet.octopart.com:443/MMZ1608B121CTAH0-TDK-datasheet-17595614.pdf?src-supplier=TME; ComponentLink5Description: https://datasheet.octopart.com:443/MMZ1608B121CTAH0-TDK-datasheet-17595614.pdf?src-supplier=TME
pins: 1, 2

## RC0402FR-073K01L
designator R?, comment 3.01K
Res Thick Film 0402 3.01K Ohm 1% 1/16W ±100ppm/°C Molded SMD Paper T/R; Manufacturer: Yageo Group; Manufacturer Part Number: RC0402FR-073K01L; Max Power Dissipation: 63mW; Power Rating: 62.5mW; Resistance: 3.01kΩ; Voltage Rating: 50V; Supplier 1: DigiKey; RoHS: Compliant; Category: Chip SMD Resistors; Stock 1: 575918; Pricing 1: 1=0.1, 10=0.021, 25=0.0152, 50=0.012, 100=0.0097, 250=0.0074, 500=0.00612, 1000=0.00512, 5000=0.00355 (USD); Case/Package: 0402; Case Code (Imperial): 0402; China RoHS: Non-Compliant; Composition: Thick Film; Contact Plating: Tin; Country of Origin: Mainland China, Taiwan; Depth: 500µm; Export Control Classification Number (ECCN) Code: EAR99; Features: Moisture Resistant; Height: 350µm; Harmonized Tariff Schedule (HTS) Code: 8533.21.00.30; Introduction Date: 2004-10-04; Lead Free: Lead Free; Length: 1mm; Lifecycle Status: Production; Max Operating Temperature: 155°C; Military Standard: Not; Min Operating Temperature: -55°C; Mount: Surface Mount; Number of Terminals: 2; Number of Terminations: 2; REACH SVHC: Unaffected; Schedule B: 8533210045, 8533210045|8533210045|8533210045|8533210045|8533210045|8533210045|8533210045|8533210045|8533210045|8533210045|8533210045|8533210045|8533210045, 8533210045|8533210045|8533210045|8533210045|8533210045|8533210045|8533210045|8533210045|8533210045|8533210045|8533210045|8533210045|8533210045|8533210045, 8533210045|8533210045|8533210045|8533210045|8533210045|8533210045|8533210045|8533210045|8533210045|8533210045|8533210045|8533210045|8533210045|8533210045|8533210045; Temperature Coefficient: 100ppm/°C; Termination: SMD/SMT; Tolerance: 1%; Voltage Rating (DC): 50V; Width: 500µm; Working Voltage: 50V; ComponentLink1URL: https://datasheet.octopart.com:443/RC0402FR-073K01L-Yageo-datasheet-175887523.pdf?src-supplier=IHS; ComponentLink1Description: https://datasheet.octopart.com:443/RC0402FR-073K01L-Yageo-datasheet-175887523.pdf?src-supplier=IHS; ComponentLink2URL: https://datasheet.octopart.com:443/RC0402FR-073K01L-Yageo-datasheet-103092701.pdf?src-supplier=Upverter; ComponentLink2Description: https://datasheet.octopart.com:443/RC0402FR-073K01L-Yageo-datasheet-103092701.pdf?src-supplier=Upverter; ComponentLink3URL: https://datasheet.octopart.com:443/RC0402FR-073K01L-Yageo-Group-datasheet-190305687.pdf?src-supplier=Future+Electronics; ComponentLink3Description: https://datasheet.octopart.com:443/RC0402FR-073K01L-Yageo-Group-datasheet-190305687.pdf?src-supplier=Future+Electronics; ComponentLink4URL: https://datasheet.octopart.com:443/RC0402FR-073K01L-Yageo-datasheet-164759695.pdf?src-supplier=Future+Electronics; ComponentLink4Description: https://datasheet.octopart.com:443/RC0402FR-073K01L-Yageo-datasheet-164759695.pdf?src-supplier=Future+Electronics; ComponentLink5URL: https://datasheet.octopart.com:443/RC0402FR-073K01L-Yageo-datasheet-137700087.pdf?src-supplier=Future+Electronics; ComponentLink5Description: https://datasheet.octopart.com:443/RC0402FR-073K01L-Yageo-datasheet-137700087.pdf?src-supplier=Future+Electronics; ComponentLink6URL: https://datasheet.octopart.com:443/RC0402FR-073K01L-Yageo-datasheet-12531192.pdf?src-supplier=Future+Electronics; ComponentLink6Description: https://datasheet.octopart.com:443/RC0402FR-073K01L-Yageo-datasheet-12531192.pdf?src-supplier=Future+Electronics; ComponentLink7URL: https://datasheet.octopart.com:443/RC0402FR-073K01L-Yageo-datasheet-505231.pdf?src-supplier=Future+Electronics; ComponentLink7Description: https://datasheet.octopart.com:443/RC0402FR-073K01L-Yageo-datasheet-505231.pdf?src-supplier=Future+Electronics; ComponentLink8URL: https://datasheet.octopart.com:443/RC0402FR-073K01L-Yageo-datasheet-10408619.pdf?src-supplier=Newark; ComponentLink8Description: https://datasheet.octopart.com:443/RC0402FR-073K01L-Yageo-datasheet-10408619.pdf?src-supplier=Newark; ComponentLink9URL: https://datasheet.octopart.com:443/RC0402FR-073K01L-Yageo-datasheet-62067350.pdf?src-supplier=Newark; ComponentLink9Description: https://datasheet.octopart.com:443/RC0402FR-073K01L-Yageo-datasheet-62067350.pdf?src-supplier=Newark; ComponentLink10URL: https://datasheet.octopart.com:443/RC0402FR-073K01L-Yageo-Group-datasheet-176638170.pdf?src-supplier=TME; ComponentLink10Description: https://datasheet.octopart.com:443/RC0402FR-073K01L-Yageo-Group-datasheet-176638170.pdf?src-supplier=TME; ComponentLink11URL: https://datasheet.octopart.com:443/RC0402FR-073K01L-Yageo-Group-datasheet-189192902.pdf?src-supplier=TME; ComponentLink11Description: https://datasheet.octopart.com:443/RC0402FR-073K01L-Yageo-Group-datasheet-189192902.pdf?src-supplier=TME; ComponentLink12URL: https://datasheet.octopart.com/RC0402FR-073K01L-Yageo-datasheet-73766026.pdf; ComponentLink12Description: https://datasheet.octopart.com/RC0402FR-073K01L-Yageo-datasheet-73766026.pdf; ComponentLink13URL: http://sigma.octopart.com:80/conflict_mineral_statement/Yageo-company-3.pdf?src-supplier=Compliance+Statements; ComponentLink13Description: http://sigma.octopart.com:80/conflict_mineral_statement/Yageo-company-3.pdf?src-supplier=Compliance+Statements; ComponentLink14URL: http://sigma.octopart.com:80/rohs_statement/Yageo-company-2.pdf?src-supplier=Compliance+Statements; ComponentLink14Description: http://sigma.octopart.com:80/rohs_statement/Yageo-company-2.pdf?src-supplier=Compliance+Statements
pins: 1, 2

## RT0402FRE07500RL
designator *
500 Ohms 1% 0.063W, 1/16W Chip Resistor 0402 (1005 Metric) Moisture Resistant; Manufacturer: Yageo Group; Manufacturer Part Number: RT0402FRE07500RL; Power Rating: 63mW; Resistance: 500Ω; Temperature Coefficient: 50ppm/°C; Voltage Rating: 50V; Supplier 1: DigiKey; RoHS: Compliant; Category: Chip SMD Resistors; Pricing 1: 1=0.1, 10=0.014, 50=0.0126, 100=0.0119, 500=0.01044 (USD); Case/Package: 0402; Composition: Thin Film; Height: 350µm; Max Operating Temperature: 155°C; Min Operating Temperature: -55°C; Packaging: Tape & Reel; Tolerance: 1%; ComponentLink1URL: https://datasheet.octopart.com:443/RT0402FRE07500RL-Yageo-datasheet-176402239.pdf?src-supplier=element14+APAC; ComponentLink1Description: https://datasheet.octopart.com:443/RT0402FRE07500RL-Yageo-datasheet-176402239.pdf?src-supplier=element14+APAC; ComponentLink2URL: https://sigma.octopart.com:443/138820526/technical_drawing/Yageo-RT0402FRE07500RL.pdf?src-supplier=Upverter; ComponentLink2Description: https://sigma.octopart.com:443/138820526/technical_drawing/Yageo-RT0402FRE07500RL.pdf?src-supplier=Upverter; ComponentLink3URL: https://datasheet.octopart.com:443/RT0402FRE07500RL-Yageo-Group-datasheet-188167888.pdf?src-supplier=LCSC; ComponentLink3Description: https://datasheet.octopart.com:443/RT0402FRE07500RL-Yageo-Group-datasheet-188167888.pdf?src-supplier=LCSC; ComponentLink4URL: https://datasheet.octopart.com/RT0402FRE07500RL-Yageo-datasheet-86813807.pdf; ComponentLink4Description: https://datasheet.octopart.com/RT0402FRE07500RL-Yageo-datasheet-86813807.pdf; ComponentLink5URL: http://sigma.octopart.com:80/conflict_mineral_statement/Yageo-company-3.pdf?src-supplier=Compliance+Statements; ComponentLink5Description: http://sigma.octopart.com:80/conflict_mineral_statement/Yageo-company-3.pdf?src-supplier=Compliance+Statements; ComponentLink6URL: http://sigma.octopart.com:80/rohs_statement/Yageo-company-2.pdf?src-supplier=Compliance+Statements; ComponentLink6Description: http://sigma.octopart.com:80/rohs_statement/Yageo-company-2.pdf?src-supplier=Compliance+Statements